# Altium footprint library PCB - POWER INDUCTORS - WURTH WE-XHMI 1090.PcbLib: 1 footprints
Each footprint in its own frame and in the unit in brackets; x right, y up, seen from the top. Pads: shape width x height; smd on the part's side, far side on the other; paste and mask are expansions set on the pad; w line width, h text height; cw(c..) or ccw(c..) is an arc to the next point about the centre after c.
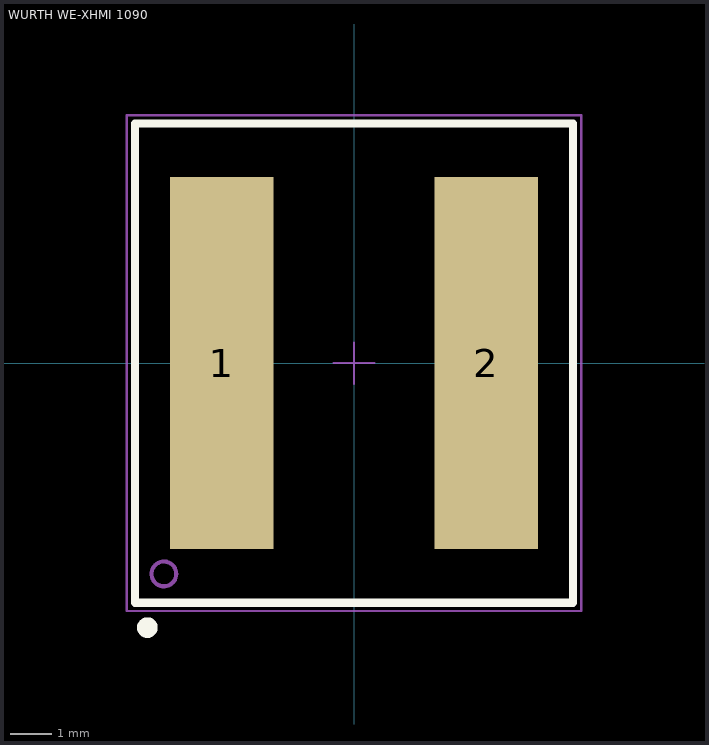
[diagram p0: the footprint, top view; thin cyan lines are the x and y axes]

## WURTH WE-XHMI 1090 [mm] "SMT Power Inductor, 2-Leads, body 11.6x10.5mm"
height 8.8
pads (2):
  rect 2.5x9 smd: 1(-3.2,0) 2(3.2,0)
Top Overlay:
  circle w0.25: c-5,-6.4 r0.125
  lines w0.2: -5.3,-5.8 5.3,-5.8 5.3,5.8 -5.3,5.8 -5.3,-5.8
Top Assembly:
  circle w0.1: c-4.6,-5.1 r0.3
  lines w0.05: -0.5,0 0.5,0 ; 0,-0.5 0,0.5
  lines w0.1: -5.25,-5.8 5.25,-5.8 5.25,5.8 -5.25,5.8 -5.25,-5.8
Top Component Outline:
  circle w0.1: c-4.6,-5.1 r0.3
  lines w0.1: -5.25,-5.8 -5.25,5.8 5.25,5.8 5.25,-5.8 -5.25,-5.8
Top Courtyard:
  lines w0.05: -5.5,-6 5.5,-6 5.5,6 -5.5,6 -5.5,-6
3D body "74439369xxx.stp": height 8.8, standoff 0, extent -5.25,-5.8 5.25,5.8